# Altium schematic symbol library G5_Connector.SchLib: 1 symbol
Pins are listed as number, name and electrical type; pins without a type are passive.

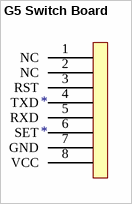
[diagram p0: symbol G5 Switch Board]

## G5 Switch Board
designator *
footprint PM2.5
pins: 1 NC, 2 NC, 3 RST, 4 TXD, 5 RXD, 6 SET, 7 GND, 8 VCC